# EAGLE library part ICM20948 (library my_ic)
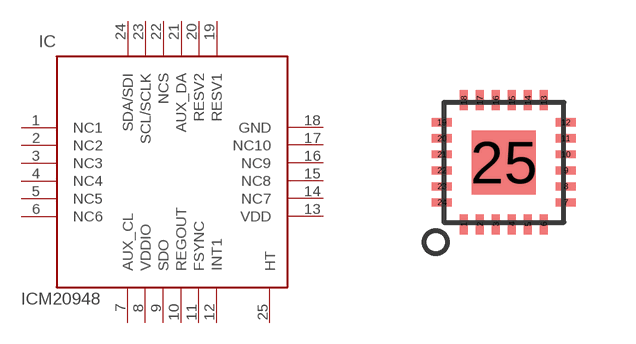
[diagram p27: symbol with the pads of QFN24-3X3; footprint QFN24-3X3]

Designator prefix IC

## ICM20948  [QFN24-3X3]
1  NC1  nc
2  NC2  nc
3  NC3  nc
4  NC4  nc
5  NC5  nc
6  NC6  nc
7  AUX_CL  nc
8  VDDIO  pwr
9  SDO  out
10  REGOUT  pwr
11  FSYNC  in
12  INT1  out
13  VDD  pwr
14  NC7  nc
15  NC8  nc
16  NC9  nc
17  NC10  nc
18  GND  pwr
19  RESV1  in
20  RESV2  in
21  AUX_DA  nc
22  NCS  in
23  SCL/SCLK
24  SDA/SDI
25  HT  pwr

## Footprint QFN24-3X3 (pad centres in mm)
smd 0.2 x 0.5: 1 -1,-1.55; 2 -0.6,-1.55; 3 -0.2,-1.55; 4 0.2,-1.55; 5 0.6,-1.55; 6 1,-1.55; 13 1,1.55; 14 0.6,1.55; 15 0.2,1.55; 16 -0.2,1.55; 17 -0.6,1.55; 18 -1,1.55
smd 0.5 x 0.2: 7 1.55,-1; 8 1.55,-0.6; 9 1.55,-0.2; 10 1.55,0.2; 11 1.55,0.6; 12 1.55,1; 19 -1.55,1; 20 -1.55,0.6; 21 -1.55,0.2; 22 -1.55,-0.2; 23 -1.55,-0.6; 24 -1.55,-1
smd 1.6 x 1.6: 25 0,0